# EAGLE library part R-EU-ARR8 (library rcl)
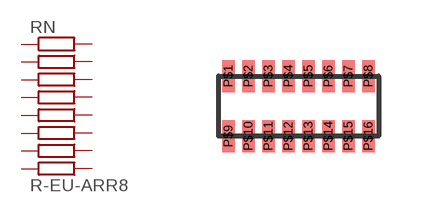
[diagram p2: symbol with the pads of R0402X8; footprint R0402X8]

Designator prefix RN

## R-EU-ARR80402  [R0402X8]
P$1  1  pas
P$2  3  pas
P$3  5  pas
P$4  7  pas
P$5  9  pas
P$6  11  pas
P$7  13  pas
P$8  15  pas
P$9  2  pas
P$10  4  pas
P$11  6  pas
P$12  8  pas
P$13  10  pas
P$14  12  pas
P$15  14  pas
P$16  16  pas

## Footprint R0402X8 (pad centres in mm)
smd 0.32 x 0.8: P$1 -2.5,1; P$2 -2,1; P$3 -1.5,1; P$4 -1,1; P$5 -0.5,1; P$6 0,1; P$7 0.5,1; P$8 1,1; P$9 -2.5,-0.5; P$10 -2,-0.5; P$11 -1.5,-0.5; P$12 -1,-0.5; P$13 -0.5,-0.5; P$14 0,-0.5; P$15 0.5,-0.5; P$16 1,-0.5